# Altium schematic symbol library MAX25208.SchLib: 1 symbol
Pins are listed as number, name and electrical type; pins without a type are passive.

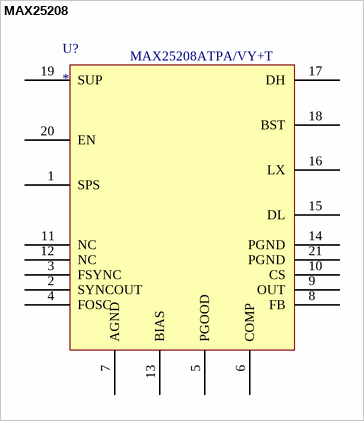
[diagram p0: symbol MAX25208]

## MAX25208
designator U?  Supplier Part Number 1: MAX25208ATPA/VY+T
Industry's Lowest 70V IQ Automotive Synchronous Step-Down Controller Uses Only 7µA of Quiescent Current; Manufacturer: Maxim Integrated; Supplier 1: Avnet; Manufacturer Part Number: MAX25208ATPA/VY+T; Pricing 1: 2500=2.19325, 5000=2.16225, 10000=2.13125, 15000=2.10025, 20000=2.06925, 25000=2.03825, 250000=2.00725 (USD); ComponentLink1URL: http://datasheet.octopart.com/MAX25208ATPA-VY%2BT-Maxim-Integrated-datasheet-150864306.pdf?src-supplier=Ciiva+Crawler; ComponentLink1Description: http://datasheet.octopart.com/MAX25208ATPA-VY%2BT-Maxim-Integrated-datasheet-150864306.pdf?src-supplier=Ciiva+Crawler
footprint QFN50P400X400X80_HS-21N (QFN, 20-Leads, Body 4.00x4.00mm, Pitch 0.50mm, Thermal Pad 2.20x2.20mm, IPC Medium Density)
pins: 1 SPS, 2 SYNCOUT, 3 FSYNC, 4 FOSC, 5 PGOOD, 6 COMP, 7 AGND, 8 FB, 9 OUT, 10 CS, 11 NC, 12 NC, 13 BIAS, 14 PGND, 15 DL, 16 LX, 17 DH, 18 BST, 19 SUP, 20 EN, 21 PGND